# EAGLE library part XC9536_44VQ (library SMD_Qualifier)
xc9536_pc44 XC9500 In-System Programmable CPLD Family Auto generated by make-symbol-device-package-bsdl.ulp Rev. 34 Source: xc9536_vq44.bsd
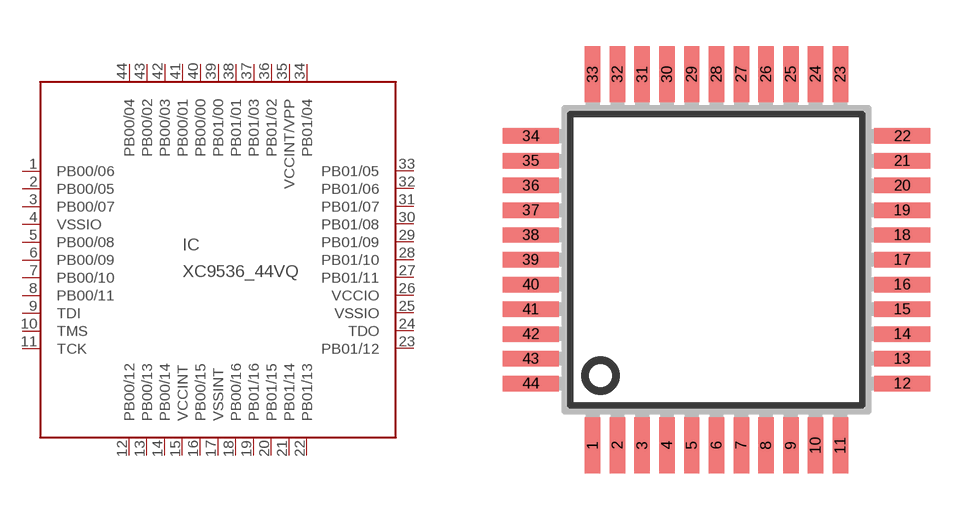
[diagram p1: symbol with the pads of SQFP-S-10X10-44; footprint SQFP-S-10X10-44]

Designator prefix IC

## XC9536_44VQ (MPN: XC9536-15VQG44C; OC_FARNELL: 1193227; OC_NEWARK: 98K3377)  [SQFP-S-10X10-44]
1  PB00/06
2  PB00/05
3  PB00/07
4  VSSIO  pwr
5  PB00/08
6  PB00/09
7  PB00/10
8  PB00/11
9  TDI  in
10  TMS  in
11  TCK  in
12  PB00/12
13  PB00/13
14  PB00/14
15  VCCINT  pwr
16  PB00/15
17  VSSINT  pwr
18  PB00/16
19  PB01/16
20  PB01/15
21  PB01/14
22  PB01/13
23  PB01/12
24  TDO  out
25  VSSIO  pwr
26  VCCIO  pwr
27  PB01/11
28  PB01/10
29  PB01/09
30  PB01/08
31  PB01/07
32  PB01/06
33  PB01/05
34  PB01/04
35  VCCINT/VPP  in
36  PB01/02
37  PB01/03
38  PB01/01
39  PB01/00
40  PB00/00
41  PB00/01
42  PB00/03
43  PB00/02
44  PB00/04

## Footprint SQFP-S-10X10-44 (pad centres in mm)
QFP44 shrink quad flat pack, square
smd 0.5 x 1.8: 1 -4,-6; 2 -3.2,-6; 3 -2.4,-6; 4 -1.6,-6; 5 -0.8,-6; 6 0,-6; 7 0.8,-6; 8 1.6,-6; 9 2.4,-6; 10 3.2,-6; 11 4,-6; 23 4,6; 24 3.2,6; 25 2.4,6; 26 1.6,6; 27 0.8,6; 28 0,6; 29 -0.8,6; 30 -1.6,6; 31 -2.4,6; 32 -3.2,6; 33 -4,6
smd 1.8 x 0.5: 12 6,-4; 13 6,-3.2; 14 6,-2.4; 15 6,-1.6; 16 6,-0.8; 17 6,0; 18 6,0.8; 19 6,1.6; 20 6,2.4; 21 6,3.2; 22 6,4; 34 -6,4; 35 -6,3.2; 36 -6,2.4; 37 -6,1.6; 38 -6,0.8; 39 -6,0; 40 -6,-0.8; 41 -6,-1.6; 42 -6,-2.4; 43 -6,-3.2; 44 -6,-4